# Altium schematic symbol library thermometer_lib.SchLib: 7 symbols
Pins are listed as number, name and electrical type; pins without a type are passive.

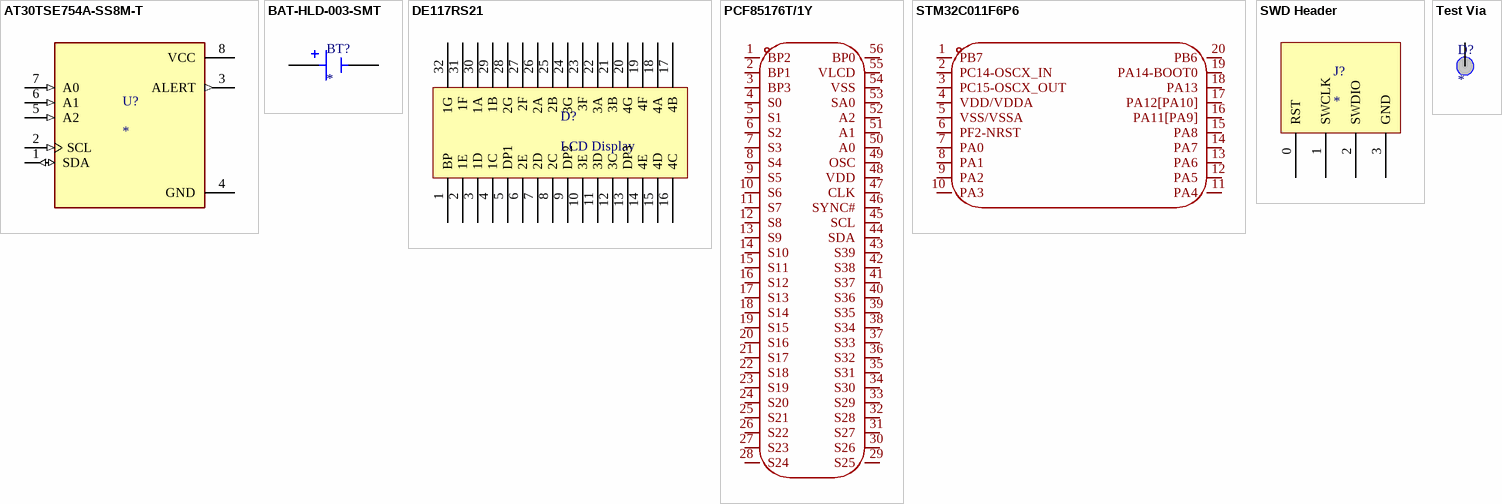
[diagram p0: symbols AT30TSE754A-SS8M-T to Test Via]

## AT30TSE754A-SS8M-T
designator U?
Temperature Sensor; MP: AT30TSE754A-SS8M-T; Package: None; Price: None; Value: *; Availability: Unavailable; ComponentLink1Description: Datasheet; ComponentLink1URL: https://cdn-reichelt.de/documents/datenblatt/A200/AT30TSE752A-SS8M-B_ENG_TDS.pdf
footprint SOIC127P599X175-8N
pins: 1 SDA (io), 2 SCL (in), 3 ALERT (out), 4 GND (power), 5 A2 (in), 6 A1 (in), 7 A0 (in), 8 VCC (power)

## BAT-HLD-003-SMT
designator BT?
Battery Holder Coin 20 SMT Nickel; MF: Linx Technologies Inc.; MP: BAT-HLD-003-SMT; SnapEDA_Link: https://www.snapeda.com/parts/BAT-HLD-003-SMT/Linx/view-part/?ref=snap; Package: None; Value: *; Check_prices: https://www.snapeda.com/parts/BAT-HLD-003-SMT/Linx/view-part/?ref=eda; ComponentLink1Description: Datsheet; ComponentLink1URL: https://www.te.com/commerce/DocumentDelivery/DDEController?Action=srchrtrv&DocNm=BAT-HLD-003-SMT-TR&DocType=Data+Sheet&DocLang=English&DocFormat=pdf&PartCntxt=BAT-HLD-003-SMT-TR
footprint BAT_BAT-HLD-003-SMT
pins: N NEG, P1 POS, P2 POS

## DE117RS21
designator D?, comment LCD Display
A 4 digit LCD Display with 4 Backplanes and no Backlight running at very low current (2uA/cm^2); ComponentLink1Description: Datasheet; ComponentLink1URL: https://cdn-reichelt.de/documents/datenblatt/C700/DE117RS2075.pdf
footprint DE117RS2075V
pins: 1 BP, 2 1E, 3 1D, 4 1C, 5 DP1, 6 2E, 7 2D, 8 2C, 9 DP2, 10 3E, 11 3D, 12 3C, 13 DP3, 14 4E, 15 4D, 16 4C, 17 4B, 18 4A, 19 4F, 20 4G, 21 3B, 22 3A, 23 3F, 24 3G, 25 2B, 26 2A, 27 2F, 28 2G, 29 1B, 30 1A, 31 1F, 32 1G

## PCF85176T/1Y
designator U?  (value not drawn)
40x4 Universal LCD Driver; Manufacturer: NXP(恩智浦); Add into BOM: yes; Display Configurations: 40段; Operating Voltage: 1.8V~5.5V; Interface: I2C; Operating Current: 3.5uA; Symbol: PCF85176T/1Y; Device: PCF85176T/1Y; LCSC Part Name: PCF85176T/1Y; Supplier Part: C3194505; Manufacturer Part: PCF85176T/1Y; Supplier Footprint: TFSOP-56-6.1mm; JLCPCB Part Class: Extended Part; Datasheet: https://www.mouser.de/datasheet/2/302/PCF85176-2539777.pdf; Supplier: LCSC; Convert to PCB: yes; Operating Temperature: -40℃~+85℃; ComponentLink1Description: Datasheet; ComponentLink1URL: https://www.mouser.de/datasheet/2/302/PCF85176-2539777.pdf
footprint TSSOP-56_L14.0-W6.1-P0.50-LS8.1-BL
pins: 1 BP2, 2 BP1, 3 BP3, 4 S0, 5 S1, 6 S2, 7 S3, 8 S4, 9 S5, 10 S6, 11 S7, 12 S8, 13 S9, 14 S10, 15 S11, 16 S12, 17 S13, 18 S14, 19 S15, 20 S16, 21 S17, 22 S18, 23 S19, 24 S20, 25 S21, 26 S22, 27 S23, 28 S24, 29 S25, 30 S26, 31 S27, 32 S28, 33 S29, 34 S30, 35 S31, 36 S32, 37 S33, 38 S34, 39 S35, 40 S36, 41 S37, 42 S38, 43 S39, 44 SDA, 45 SCL, 46 SYNC#, 47 CLK, 48 VDD, 49 OSC, 50 A0, 51 A1, 52 A2, 53 SA0, 54 VSS, 55 VLCD, 56 BP0

## STM32C011F6P6
designator U?  (value not drawn)
Microcontroller; Manufacturer: ST(意法半导体); Add into BOM: yes; Symbol: STM32C011F6P6; Device: STM32C011F6P6; LCSC Part Name: STM32C011F6P6; Supplier Part: C5456198; Manufacturer Part: STM32C011F6P6; Supplier Footprint: TSSOP-20; JLCPCB Part Class: Extended Part; Datasheet: https://www.st.com/resource/en/datasheet/stm32c011d6.pdf; Supplier: LCSC; Convert to PCB: yes; ComponentLink1Description: Datasheet; ComponentLink1URL: https://www.st.com/resource/en/datasheet/stm32c011d6.pdf
footprint TSSOP-20_L6.5-W4.4-P0.65-LS6.4-BL
pins: 1 PB7, 2 PC14-OSCX_IN, 3 PC15-OSCX_OUT, 4 VDD/VDDA, 5 VSS/VSSA, 6 PF2-NRST, 7 PA0, 8 PA1, 9 PA2, 10 PA3, 11 PA4, 12 PA5, 13 PA6, 14 PA7, 15 PA8, 16 PA11[PA9], 17 PA12[PA10], 18 PA13, 19 PA14-BOOT0, 20 PB6

## SWD Header
designator J?
footprint 4-Pin Header TH (A Throughole 4 Pin Header)
pins: 0 RST, 1 SWCLK, 2 SWDIO, 3 GND

## Test Via
designator D?
Test via hole
footprint Test Via (A test via hole)
pins: 1